# EAGLE library part FXL6408UMX (library on-semiconductor)
GPIO Expander I2C Fully configurable 8-bit I2C-Controlled GPIO Expander 1.65V to 4.0V supply voltage range
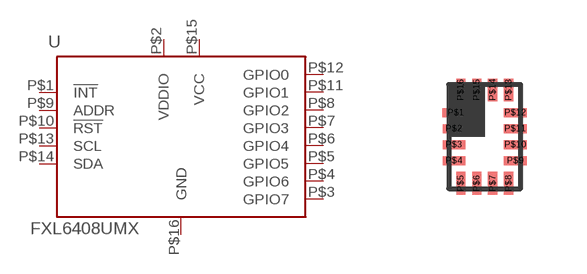
[diagram p11: symbol with the pads of UMLP-16; footprint UMLP-16]

Designator prefix -

## FXL6408UMX  [UMLP-16]
P$1  !INT!  out
P$2  VDDIO  pwr
P$3  GPIO7
P$4  GPIO6
P$5  GPIO5
P$6  GPIO4
P$7  GPIO3
P$8  GPIO2
P$9  ADDR  in
P$10  !RST!  in
P$11  GPIO1
P$12  GPIO0
P$13  SCL  in
P$14  SDA
P$15  VCC  pwr
P$16  GND  pwr

## Footprint UMLP-16 (pad centres in mm)
smd 0.663 x 0.225: P$1 -0.719,0.6
smd 0.563 x 0.225: P$2 -0.768,0.2; P$3 -0.768,-0.2; P$4 -0.768,-0.6; P$9 0.768,-0.6; P$10 0.768,-0.2; P$11 0.768,0.2; P$12 0.768,0.6
smd 0.225 x 0.563: P$5 -0.6,-1.169; P$6 -0.2,-1.169; P$7 0.2,-1.169; P$8 0.6,-1.169; P$13 0.6,1.169; P$14 0.2,1.169; P$15 -0.2,1.169; P$16 -0.6,1.169